# Altium footprint library Control_Board_Model_C201.PcbLib: 124 footprints (part 6 of 8)
Each footprint in its own frame and in the unit in brackets; x right, y up, seen from the top. Pads: shape width x height; smd on the part's side, far side on the other; paste and mask are expansions set on the pad; w line width, h text height; cw(c..) or ccw(c..) is an arc to the next point about the centre after c.
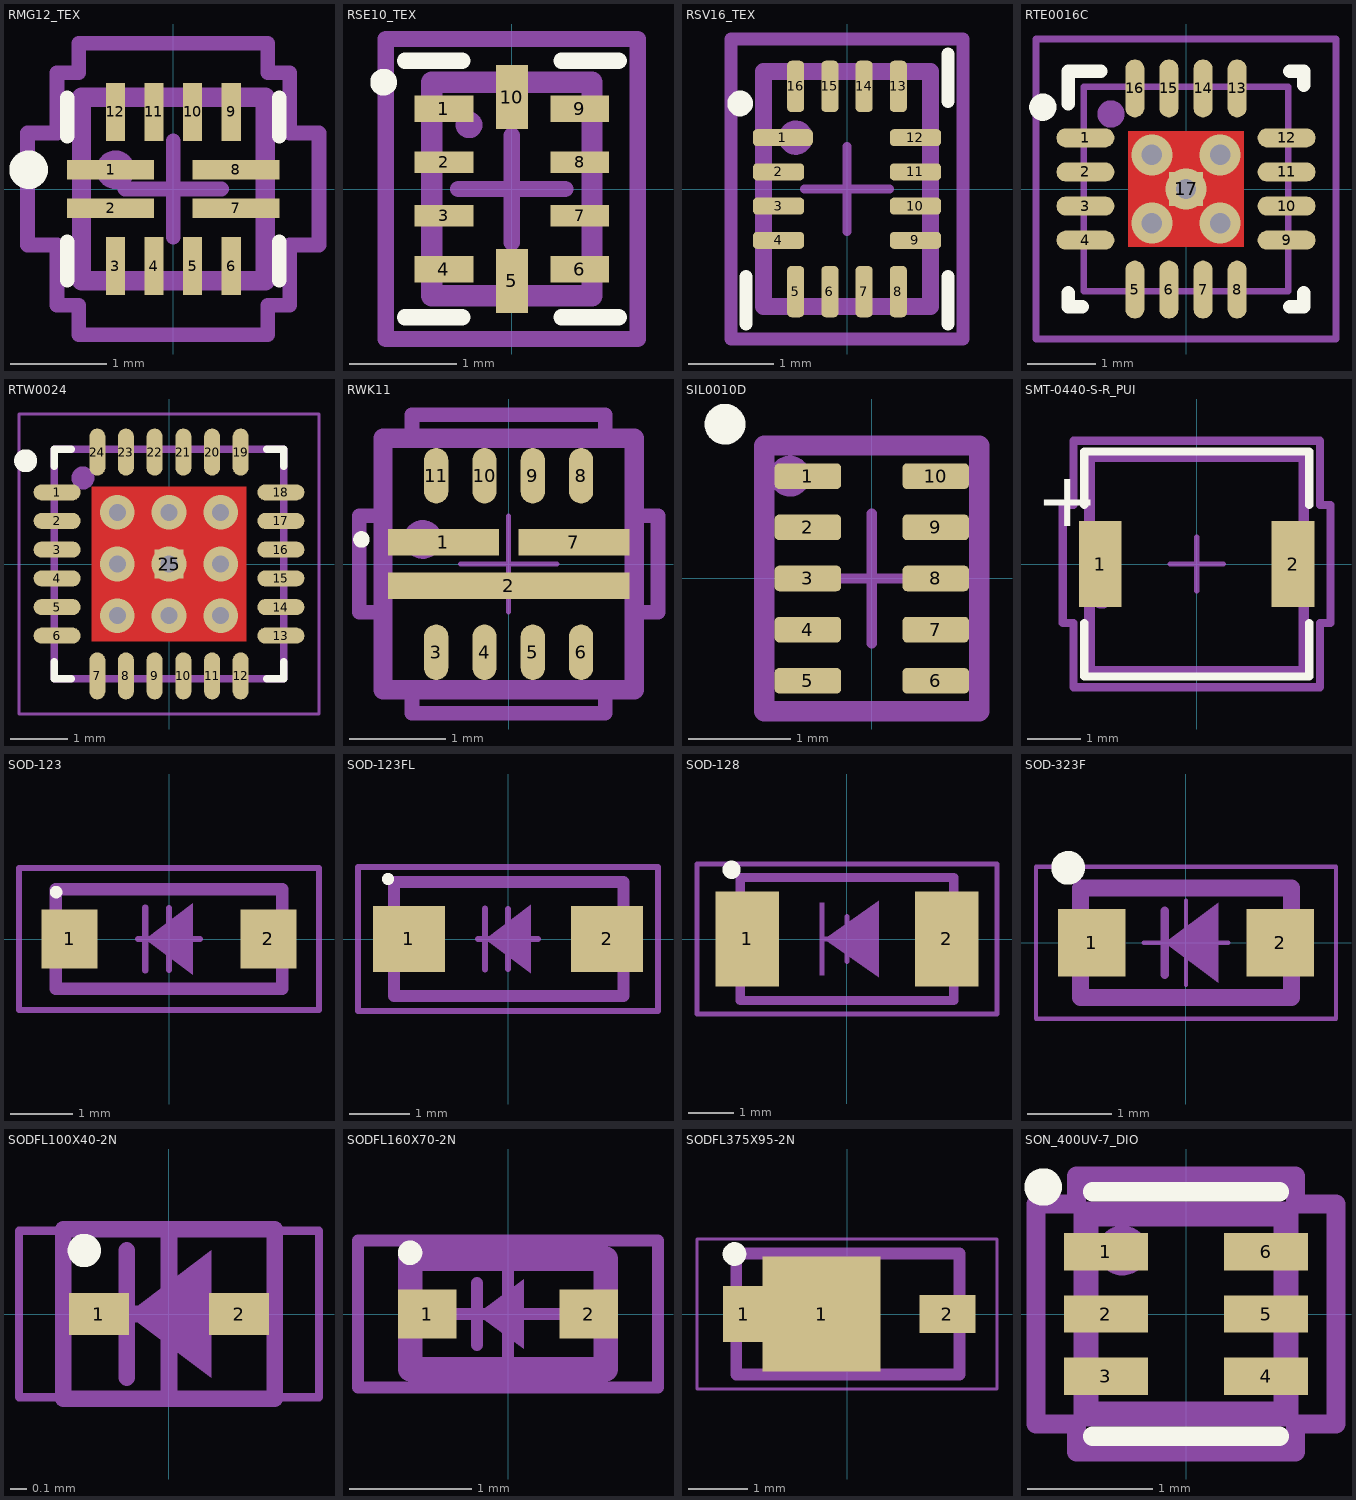
[diagram p5: the footprints below, top view; thin cyan lines are the x and y axes]

## RMG12_TEX [mm]
pads (12):
  rect 0.9x0.2 smd mask+0.05: 1(-0.65,0.2) 2(-0.65,-0.2) 7(0.65,-0.2) 8(0.65,0.2)
  rect 0.2x0.6 smd mask+0.05: 3(-0.6,-0.8) 4(-0.2,-0.8) 5(0.2,-0.8) 6(0.6,-0.8) 9(0.6,0.8) 10(0.2,0.8) 11(-0.2,0.8) 12(-0.6,0.8)
Top Overlay:
  circle w0.2: c-1.5,0.2 r0.1
  lines w0.152: -1.1,-0.945 -1.1,-0.55 ; -1.1,0.55 -1.1,0.945 ; 1.1,-0.945 1.1,-0.55 ; 1.1,0.55 1.1,0.945
Mechanical 14:
  circle w0.2: c-0.6,0.2 r0.1
  lines w0.2: -0.953,-0.953 -0.953,0.953 0.953,0.953 0.953,-0.953 -0.953,-0.953
  text "'.Designator'" at -0.8,-0.3 h0.5
Mechanical 15:
  lines w0.152: -0.5,0 0.5,0 ; 0,-0.5 0,0.5 ; -1.511,-0.581 -1.511,0.581 -1.206,0.581 -1.206,1.206 -0.981,1.206 -0.981,1.511 0.981,1.511 0.981,1.206 1.206,1.206 1.206,0.581 1.511,0.581 1.511,-0.581 1.206,-0.581 1.206,-1.206 0.981,-1.206 0.981,-1.511 -0.981,-1.511 -0.981,-1.206 -1.206,-1.206 -1.206,-0.581 -1.511,-0.581
3D body "RMG12_TEX.step": height 0.81, standoff 0, extent -0.952,-0.952 0.952,0.952

## RSE10_TEX [mm]
pads (10):
  rect 0.55x0.25 smd paste-0.15 mask+0.05: 1(-0.635,0.75) 4(-0.635,-0.75) 6(0.635,-0.75) 9(0.635,0.75)
  rect 0.55x0.2 smd mask+0.05: 2(-0.635,0.25) 3(-0.635,-0.25) 7(0.635,-0.25) 8(0.635,0.25)
  rect 0.3x0.6 smd mask+0.05: 5(0,-0.86) 10(0,0.86)
Top Overlay:
  circle w0.15: c-1.2,1 r0.05
  lines w0.152: -1,-1.2 -0.465,-1.2 ; -1,1.2 -0.465,1.2 ; 0.465,-1.2 1,-1.2 ; 0.465,1.2 1,1.2
Mechanical 14:
  circle w0.15: c-0.4,0.6 r0.05
  lines w0.2: -0.75,-1 0.75,-1 0.75,1 -0.75,1 -0.75,-1
  text "'.Designator'" at -0.4,-0.3 h0.5
Mechanical 15:
  lines w0.152: -0.5,0 0.5,0 ; 0,-0.5 0,0.5 ; -1.179,-1.404 -1.179,1.404 1.179,1.404 1.179,-1.404 -1.179,-1.404
3D body "RSE0010A.stp": height 0.6, standoff 0, extent -0.75,-1 0.75,1

## RSV16_TEX [mm]
pads (16):
  rrect50% 0.7x0.2 smd paste+0 mask+0.05: 1(-0.75,0.6)
  rrect50% 0.6x0.2 smd paste+0 mask+0.05: 2(-0.8,0.2) 3(-0.8,-0.2) 4(-0.8,-0.6) 9(0.8,-0.6) 10(0.8,-0.2) 11(0.8,0.2) 12(0.8,0.6)
  rrect50% 0.2x0.6 smd paste+0 mask+0.05: 5(-0.6,-1.2) 6(-0.2,-1.2) 7(0.2,-1.2) 8(0.6,-1.2) 13(0.6,1.2) 14(0.2,1.2) 15(-0.2,1.2) 16(-0.6,1.2)
Top Overlay:
  circle w0.2: c-1.25,1 r0.05
  lines w0.152: -1.179,-1.579 -1.179,-1.026 ; 1.179,-1.579 1.179,-1.026 ; 1.179,1.026 1.179,1.579
Mechanical 14:
  circle w0.2: c-0.6,0.6 r0.1
  lines w0.2: -0.975,-1.375 -0.975,1.375 0.975,1.375 0.975,-1.375 -0.975,-1.375
  text "'.Designator'" at -0.6,-0.3 h0.5
Mechanical 15:
  lines w0.1: -0.5,0 0.5,0 ; 0,-0.5 0,0.5
  lines w0.152: -1.354,-1.754 1.354,-1.754 1.354,1.754 -1.354,1.754 -1.354,-1.754
3D body "RSV0016A.step": height 0.55, standoff 0, extent -0.975,-1.375 0.975,1.375

## RTE0016C [mm]
pads (17):
  rrect100% 0.85x0.28 smd paste-0.025 mask+0.05: 1(-1.475,0.75) 2(-1.475,0.25) 3(-1.475,-0.25) 4(-1.475,-0.75) 9(1.475,-0.75) 10(1.475,-0.25) 11(1.475,0.25) 12(1.475,0.75)
  rrect100% 0.28x0.85 smd paste-0.025 mask+0.05: 5(-0.75,-1.475) 6(-0.25,-1.475) 7(0.25,-1.475) 8(0.75,-1.475) 13(0.75,1.475) 14(0.25,1.475) 15(-0.25,1.475) 16(-0.75,1.475)
  rect 0.5x0.5 smd paste-2 mask+0.05: 17(0,0)
via 0,0 diameter 0.605 hole 0.3
via -0.5,0.5 diameter 0.605 hole 0.3
via 0.5,0.5 diameter 0.605 hole 0.3
via -0.5,-0.5 diameter 0.605 hole 0.3
via 0.5,-0.5 diameter 0.605 hole 0.3
Top Layer:
  rectangle: -0.85,-0.85 0.85,0.85
Top Overlay:
  circle w0.2: c-2.1,1.2 r0.1
  lines w0.2: -1.725,-1.525 -1.725,-1.725 -1.525,-1.725 ; -1.725,1.25 -1.725,1.725 -1.25,1.725 ; 1.525,-1.725 1.725,-1.725 1.725,-1.525 ; 1.525,1.725 1.725,1.725 1.725,1.525
Top Paste:
  rectangle: -0.8,0.1 -0.1,0.8
  region: -0.1,-0.8 -0.1,-0.1 -0.8,-0.1 -0.8,-0.8
  region: 0.8,-0.1 0.1,-0.1 0.1,-0.8 0.8,-0.8
  region: 0.1,0.8 0.1,0.1 0.8,0.1 0.8,0.8
Top Solder:
  rectangle: -0.9,-0.9 0.9,0.9
Mechanical 14:
  circle w0.2: c-1.1,1.1 r0.1
  lines w0.1: -1.5,-1.5 -1.5,1.5 1.5,1.5 1.5,-1.5 -1.5,-1.5
  text "'.Designator'" at -0.6,-0.2 h0.5
Mechanical 15:
  lines w0.1: -0.381,0 0.381,0 ; 0,-0.381 0,0.381 ; -2.2,-2.2 2.2,-2.2 2.2,2.2 -2.2,2.2 -2.2,-2.2
3D body "RTE0016C.stp": height 0.8, standoff 0, extent -1.5,-1.5 1.5,1.5

## RTW0024 [mm] "WQFN24 Plastic Quad Flatpack No-Lead"
height 0.8
pads (25):
  rrect100% 0.82x0.28 smd paste-0.025 mask+0.05: 1(-1.95,1.25) 2(-1.95,0.75) 3(-1.95,0.25) 4(-1.95,-0.25) 5(-1.95,-0.75) 6(-1.95,-1.25) 13(1.95,-1.25) 14(1.95,-0.75) 15(1.95,-0.25) 16(1.95,0.25) 17(1.95,0.75) 18(1.95,1.25)
  rrect100% 0.28x0.82 smd paste-0.025 mask+0.05: 7(-1.25,-1.95) 8(-0.75,-1.95) 9(-0.25,-1.95) 10(0.25,-1.95) 11(0.75,-1.95) 12(1.25,-1.95) 19(1.25,1.95) 20(0.75,1.95) 21(0.25,1.95) 22(-0.25,1.95) 23(-0.75,1.95) 24(-1.25,1.95)
  rect 0.5x0.5 smd paste-5 mask+0.05: 25(0,0)
via 0,0 diameter 0.605 hole 0.3
via -0.9,0 diameter 0.605 hole 0.3
via 0.9,0 diameter 0.605 hole 0.3
via 0.9,0.9 diameter 0.605 hole 0.3
via 0,0.9 diameter 0.605 hole 0.3
via -0.9,0.9 diameter 0.605 hole 0.3
via -0.9,-0.9 diameter 0.605 hole 0.3
via 0,-0.9 diameter 0.605 hole 0.3
via 0.9,-0.9 diameter 0.605 hole 0.3
Top Layer:
  rectangle: -1.35,-1.35 1.35,1.35
Top Overlay:
  circle w0.2: c-2.5,1.8 r0.1
  lines w0.127: -2,-1.705 -2,-2 -1.705,-2 ; -2,1.705 -2,2 -1.705,2 ; 1.705,-2 2,-2 2,-1.705 ; 1.705,2 2,2 2,1.705
Top Paste:
  region: 0.15,1.25 0.15,0.15 1.25,0.15 1.25,1.25
  region: 1.25,-0.15 0.15,-0.15 0.15,-1.25 1.25,-1.25
  region: -0.15,-1.25 -0.15,-0.15 -1.25,-0.15 -1.25,-1.25
  rectangle: -1.25,0.15 -0.15,1.25
Top Solder:
  rectangle: -1.4,-1.4 1.4,1.4
Mechanical 14:
  circle w0.2: c-1.5,1.5 r0.1
  lines w0.127: -2,-2 -2,2 ; -2,-2 2,-2 ; -2,-2 -2,2 ; -2,-2 2,-2 ; -2,2 2,2 ; -2,2 2,2 ; 2,-2 2,2 ; 2,-2 2,2
  text "'.Designator'" at -0.9,-0.2 h0.5
Mechanical 15:
  lines w0.05: -2.615,-2.615 -2.615,2.615 2.615,2.615 2.615,-2.615 -2.615,-2.615
  lines w0.1: -0.5,0 0.5,0 ; 0,-0.5 0,0.5
3D body "BQ25611DRTWT.STEP": height 0.8, standoff 0, extent -2,-2 2,2

## RWK11 [mm]
pads (11):
  rect 1.15x0.275 smd paste-1 mask-0.038: 1(-0.675,0.225) 7(0.675,0.225)
  rect 2.5x0.275 smd paste-1 mask-0.038: 2(0,-0.225)
  rrect100% 0.25x0.575 smd paste+0 mask+0.05: 3(-0.75,-0.913) 4(-0.25,-0.913) 5(0.25,-0.913) 6(0.75,-0.913) 8(0.75,0.913) 9(0.25,0.913) 10(-0.25,0.913) 11(-0.75,0.913)
Top Overlay:
  circle w0.1: c-1.524,0.254 r0.035
Top Paste:
  rectangle: -1.213,0.125 -0.788,0.325
  rectangle: -0.563,0.125 -0.138,0.325
  rectangle: 0.787,0.125 1.212,0.325
  rectangle: 0.137,0.125 0.562,0.325
  rectangle: -1.195,-0.325 -0.547,-0.125
  rectangle: -0.322,-0.325 0.326,-0.125
  rectangle: 0.551,-0.325 1.199,-0.125
Mechanical 14:
  circle w0.2: c-0.889,0.254 r0.1
  lines w0.2: -1.3,-1.3 1.3,-1.3 1.3,1.3 -1.3,1.3 -1.3,-1.3
  text ".Designator" at -0.9,-0.2 h0.5
Mechanical 15:
  lines w0.05: -0.5,0 0.5,0 ; 0,-0.5 0,0.5
  lines w0.152: -1.546,-0.5 -1.308,-0.5 -1.308,-1.308 -1,-1.308 -1,-1.546 1,-1.546 1,-1.308 1.308,-1.308 1.308,-0.5 1.546,-0.5 1.546,0.5 1.308,0.5 1.308,1.308 1,1.308 1,1.546 -1,1.546 -1,1.308 -1.308,1.308 -1.308,0.5 -1.546,0.5 -1.546,-0.5
3D body "RWK11.step": height 0.99, standoff 0, extent -1.206,-1.054 1.206,1.054

## SIL0010D [mm]
pads (10):
  rrect35% 0.65x0.25 smd mask+0.05: 1(-0.625,1) 2(-0.625,0.5) 3(-0.625,0) 4(-0.625,-0.5) 5(-0.625,-1) 6(0.625,-1) 7(0.625,-0.5) 8(0.625,0) 9(0.625,0.5) 10(0.625,1)
Top Overlay:
  circle w0.2: c-1.435,1.508 r0.1
Mechanical 14:
  circle w0.2: c-0.8,1 r0.1
  lines w0.2: -1.05,-1.3 -1.05,1.3 1.05,1.3 1.05,-1.3 -1.05,-1.3
  text ".Designator" at -0.225,-0.175 h0.5
Mechanical 15:
  lines w0.1: -0.635,0 0.635,0 ; 0,-0.635 0,0.635
3D body "SIL0010D.stp": height 1.1, standoff 0, extent -1,-1.25 1,1.25

## SMT-0440-S-R_PUI [mm] "Buzzers Transducer, Externally Driven 90mA 4kHz 70dB @ 3V, 10cm Surface Mount Solder Pads"
height 2
pads (2):
  rect 0.8x1.6 smd: 1(-1.8,0) 2(1.8,0)
Top Overlay:
  lines w0.152: -2.1,-1.1 -2.1,-2.1 2.1,-2.1 2.1,-1.1 ; -2.1,1.1 -2.1,2.1 2.1,2.1 2.1,1.1
  text "+" at -3,0.7 h1.02
Mechanical 14:
  circle w0.2: c-1.778,-0.635 r0.1
  lines w0.2: -2,-2 -2,2 2,2 2,-2 -2,-2
  text "+" at -2.8,-0.2 h0.5
  text "'.Designator'" at -1.016,-0.254 h0.5
Mechanical 15:
  lines w0.1: -0.5,0 0.5,0 ; 0,-0.5 0,0.5
  lines w0.152: -2.5,-1.1 -2.5,1.1 -2.3,1.1 -2.3,2.3 2.3,2.3 2.3,1.1 2.5,1.1 2.5,-1.1 2.3,-1.1 2.3,-2.3 -2.3,-2.3 -2.3,-1.1 -2.5,-1.1
3D body "_media_ThreeDModel_SMT-0440-S-R.stp": height 2, standoff 0, extent -2,-2 2,2

## SOD-123 [mm]
height 1.35
pads (2):
  rect 0.9x0.95 smd: 1(-1.6,0) 2(1.6,0)
Top Overlay:
  circle w0.1: c-1.816,0.754 r0.05
Mechanical 14:
  region: -0.381,0 0.381,0.571 0.381,-0.572
  lines w0.1: -0.381,-0.508 -0.381,0.508
  lines w0.2: -1.825,-0.8 -1.825,0.8 1.825,0.8 1.825,-0.8 -1.825,-0.8
  text "'.Designator'" at -1.016,1.105 h0.5
Mechanical 15:
  lines w0.1: -0.5,0 0.5,0 ; 0,-0.5 0,0.5 ; -2.413,-1.143 -2.413,1.143 2.413,1.143 2.413,-1.143 -2.413,-1.143
3D body "SOD-123.STEP": height 1.15, standoff 0, extent -1.825,-0.775 1.825,0.775

## SOD-123FL [mm]
height 1.35
pads (2):
  rect 1.2x1.1 smd: 1(-1.651,0) 2(1.651,0)
Top Overlay:
  circle w0.1: c-2,1 r0.05
Mechanical 14:
  region: -0.381,0 0.381,0.571 0.381,-0.572
  lines w0.1: -0.381,-0.508 -0.381,0.508
  lines w0.2: -1.9,-0.95 -1.9,0.95 1.925,0.95 1.925,-0.95 -1.9,-0.95
  text "'.Designator'" at -1.2,1.3 h0.5
Mechanical 15:
  lines w0.1: -0.5,0 0.5,0 ; 0,-0.5 0,0.5 ; -2.5,-1.2 -2.5,1.2 2.5,1.2 2.5,-1.2 -2.5,-1.2
3D body "SOD-123FL.STEP": height 1.35, standoff 0, extent -1.925,-0.95 1.925,0.95

## SOD-128 [mm] "SOD-128"
height 1
pads (2):
  rect 1.4x2.1 smd: 1(-2.2,0) 2(2.2,0)
Top Overlay:
  circle w0.2: c-2.54,1.524 r0.1
Mechanical 14:
  rectangle: -0.6,-0.8 -0.5,0.8
  region: -0.5,0 0.7,0.84 0.7,-0.84
  lines w0.2: -2.35,-1.35 -2.35,1.35 2.35,1.35 2.35,-1.35 -2.35,-1.35
  text "'.Designator'" at -1.016,1.905 h0.5
Mechanical 15:
  lines w0.1: -0.5,0 0.5,0 ; 0,-0.5 0,0.5 ; -3.302,-1.651 -3.302,1.651 3.302,1.651 3.302,-1.651 -3.302,-1.651
3D body "SOD-128.step": height 1, standoff 0, extent -2.35,-1.35 2.35,1.35

## SOD-323F [mm]
height 1.062
pads (2):
  rect 0.8x0.8 smd: 1(-1.115,0) 2(1.115,0)
Top Overlay:
  circle w0.2: c-1.397,0.889 r0.1
Mechanical 14:
  region: -0.254,0 0.381,0.476 0.381,-0.476
  lines w0.1: -0.254,-0.381 -0.254,0.381
  lines w0.2: -1.25,-0.65 -1.25,0.65 1.25,0.65 1.25,-0.65 -1.25,-0.65
  text "'.Designator'" at -1.397,1.016 h0.5
Mechanical 15:
  lines w0.05: -0.5,0 0.5,0 ; 0,-0.5 0,0.5 ; -1.778,-0.9 1.778,-0.9 1.778,0.9 -1.778,0.9 -1.778,-0.9
3D body "SOD-323F.STEP": height 1, standoff 0, extent -1.25,-0.65 1.25,0.65

## SODFL100X40-2N [mm] "SODFL, 2-Leads, Body 0.60x1.00mm, IPC Medium Density"
height 0.4
pads (2):
  rect 0.36x0.25 smd: 1(-0.42,0) 2(0.42,0)
Top Overlay:
  circle w0.1: c-0.508,0.381 r0.05
Mechanical 14:
  region: -0.254,0 0.254,0.381 0.254,-0.381
  lines w0.1: -0.254,-0.381 -0.254,0.381 ; -0.635,-0.508 -0.635,0.508 0.635,0.508 0.635,-0.508 -0.635,-0.508
  text "'.Designator'" at -0.635,0.762 h0.5
Mechanical 15:
  lines w0.05: -0.9,-0.5 -0.9,0.5 0.9,0.5 0.9,-0.5 -0.9,-0.5
  lines w0.1: -0.5,0 0.5,0 ; 0,-0.5 0,0.5
3D body "SODFL100X40-2N.step": height 0.4, standoff 0, extent -0.5,-0.325 0.5,0.325

## SODFL160X70-2N [mm] "SODFL, 2-Leads, Body 0.80x1.60mm, IPC Medium Density"
height 0.7
pads (2):
  rect 0.48x0.4 smd: 1(-0.66,0) 2(0.66,0)
Top Overlay:
  circle w0.1: c-0.8,0.5 r0.05
Mechanical 14:
  region: -0.254,0 0.127,0.286 0.127,-0.286
  lines w0.1: -0.254,-0.254 -0.254,0.254
  lines w0.2: -0.8,-0.45 0.8,-0.45 0.8,0.45 -0.8,0.45 -0.8,-0.45
  text "'.Designator'" at -0.635,0.762 h0.5
Mechanical 15:
  lines w0.1: -0.5,0 0.5,0 ; 0,-0.5 0,0.5 ; -1.225,-0.6 1.225,-0.6 1.225,0.6 -1.225,0.6 -1.225,-0.6
3D body "SODFL160X70-2N.step": height 0.7, standoff 0, extent -0.8,-0.45 0.8,0.45

## SODFL375X95-2N [mm] "SODFL, 2-Leads, Body 1.90x3.75mm, IPC Medium Density"
height 0.95
pads (3):
  rect 0.7x0.95 smd: 1(-1.75,0)
  rect 2x1.95 smd: 1(-0.432,0)
  rect 0.95x0.65 smd: 2(1.7,0)
Top Overlay:
  circle w0.2: c-1.905,1.016 r0.1
Mechanical 14:
  region: -0.381,0 0.381,0.571 0.381,-0.572
  lines w0.1: -0.381,-0.508 -0.381,0.508
  lines w0.2: -1.875,-1.025 1.905,-1.025 1.905,1.025 -1.875,1.025 -1.875,-1.025
  text "'.Designator'" at -1.016,1.397 h0.5
Mechanical 15:
  lines w0.05: -2.54,-1.27 2.54,-1.27 2.54,1.27 -2.54,1.27 -2.54,-1.27
  lines w0.1: -0.5,0 0.5,0 ; 0,-0.5 0,0.5
3D body "SODFL375X95-2N.step": height 0.95, standoff 0, extent -1.875,-1.025 1.875,1.025

## SON_400UV-7_DIO [mm]
pads (6):
  rect 0.67x0.3 smd: 1(-0.64,0.5) 2(-0.64,0) 3(-0.64,-0.5) 4(0.64,-0.5) 5(0.64,0) 6(0.64,0.5)
Top Overlay:
  circle w0.2: c-1.143,1.016 r0.05
  lines w0.152: -0.749,-0.978 0.749,-0.978 ; -0.749,0.978 0.749,0.978
Mechanical 14:
  circle w0.2: c-0.508,0.508 r0.1
  lines w0.2: -0.8,-0.8 -0.8,0.8 0.8,0.8 0.8,-0.8 -0.8,-0.8
  text "'.Designator'" at -0.508,-0.254 h0.5
Mechanical 15:
  lines w0.152: -1.2,-0.881 -1.2,0.881 -0.876,0.881 -0.876,1.105 0.876,1.105 0.876,0.881 1.2,0.881 1.2,-0.881 0.876,-0.881 0.876,-1.105 -0.876,-1.105 -0.876,-0.881 -1.2,-0.881
3D body "EMT6.step": height 0.5, standoff -0.01, extent -0.8,-0.8 0.8,0.8